# Altium schematic symbol library Archim_TF_Top.SchLib: 2 symbols
Pins are listed as number, name and electrical type; pins without a type are passive.

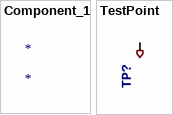
[diagram p0: symbols Component_1 to TestPoint]

## Component_1
designator *

## TestPoint
designator TP?, comment P100-T  (value not drawn)  (no BOM)
Test Point; LastRevisionNote: ImportComponents; Published: 23-Apr-2014; Publisher: UltiMachine; LastRevisionDate: 23-Apr-2014
footprint POGO_38
footprint TP1-27
pins: 1 TP